# EAGLE library part ARDUINO_MICRO (library arduino-micro)
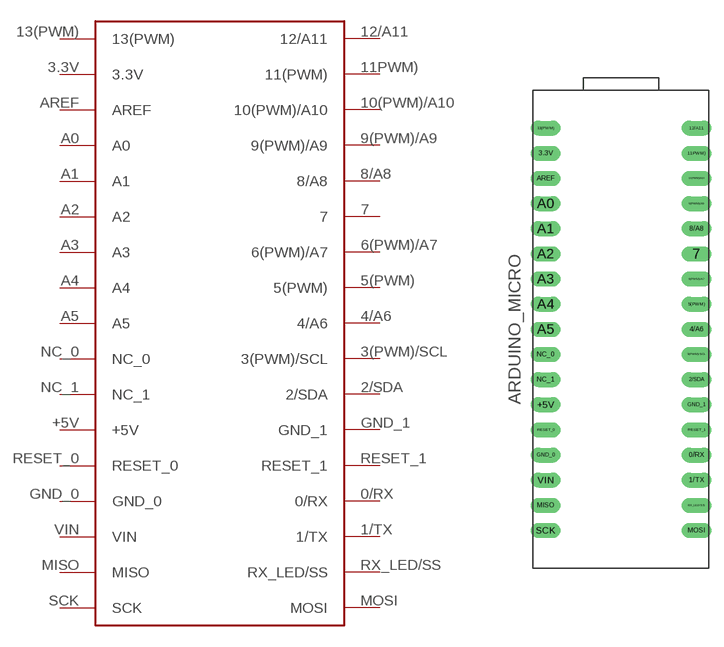
[diagram p0: symbol with the pads of ARDUINO_MICRO; footprint ARDUINO_MICRO]

Designator prefix -

## ARDUINO_MICRO  [ARDUINO_MICRO]
0/RX  0/RX
1/TX  1/TX
2/SDA  2/SDA
3(PWM)/SCL  3(PWM)/SCL
3.3V  3.3V
4/A6  4/A6
5(PWM)  5(PWM)
6(PWM)/A7  6(PWM)/A7
7  7
8/A8  8/A8
9(PWM)/A9  9(PWM)/A9
10(PWM)/A10  10(PWM)/A10
11PWM)  11(PWM)
12/A11  12/A11
13(PWM)  13(PWM)
+5V  +5V
A0  A0
A1  A1
A2  A2
A3  A3
A4  A4
A5  A5
AREF  AREF
GND_0  GND_0
GND_1  GND_1
MISO  MISO
MOSI  MOSI
NC_0  NC_0
NC_1  NC_1
RESET_0  RESET_0
RESET_1  RESET_1
RX_LED/SS  RX_LED/SS
SCK  SCK
VIN  VIN

## Footprint ARDUINO_MICRO (pad centres in mm)
drill 1 long: 0/RX 7.62,-12.7; 1/TX 7.62,-15.24; 2/SDA 7.62,-5.08; 3(PWM)/SCL 7.62,-2.54; 3.3V -7.62,17.78; 4/A6 7.62,0; 5(PWM) 7.62,2.54; 6(PWM)/A7 7.62,5.08; 7 7.62,7.62; 8/A8 7.62,10.16; 9(PWM)/A9 7.62,12.7; 10(PWM)/A10 7.62,15.24; 11PWM) 7.62,17.78; 12/A11 7.62,20.32; 13(PWM) -7.62,20.32; +5V -7.62,-7.62; A0 -7.62,12.7; A1 -7.62,10.16; A2 -7.62,7.62; A3 -7.62,5.08; A4 -7.62,2.54; A5 -7.62,0; AREF -7.62,15.24; GND_0 -7.62,-12.7; GND_1 7.62,-7.62; MISO -7.62,-17.78; MOSI 7.62,-20.32; NC_0 -7.62,-2.54; NC_1 -7.62,-5.08; RESET_0 -7.62,-10.16; RESET_1 7.62,-10.16; RX_LED/SS 7.62,-17.78; SCK -7.62,-20.32; VIN -7.62,-15.24